# Altium footprint library 610 0xx 133 21.PcbLib: 12 footprints
Each footprint in its own frame and in the unit in brackets; x right, y up, seen from the top. Pads: shape width x height; smd on the part's side, far side on the other; paste and mask are expansions set on the pad; w line width, h text height; cw(c..) or ccw(c..) is an arc to the next point about the centre after c.
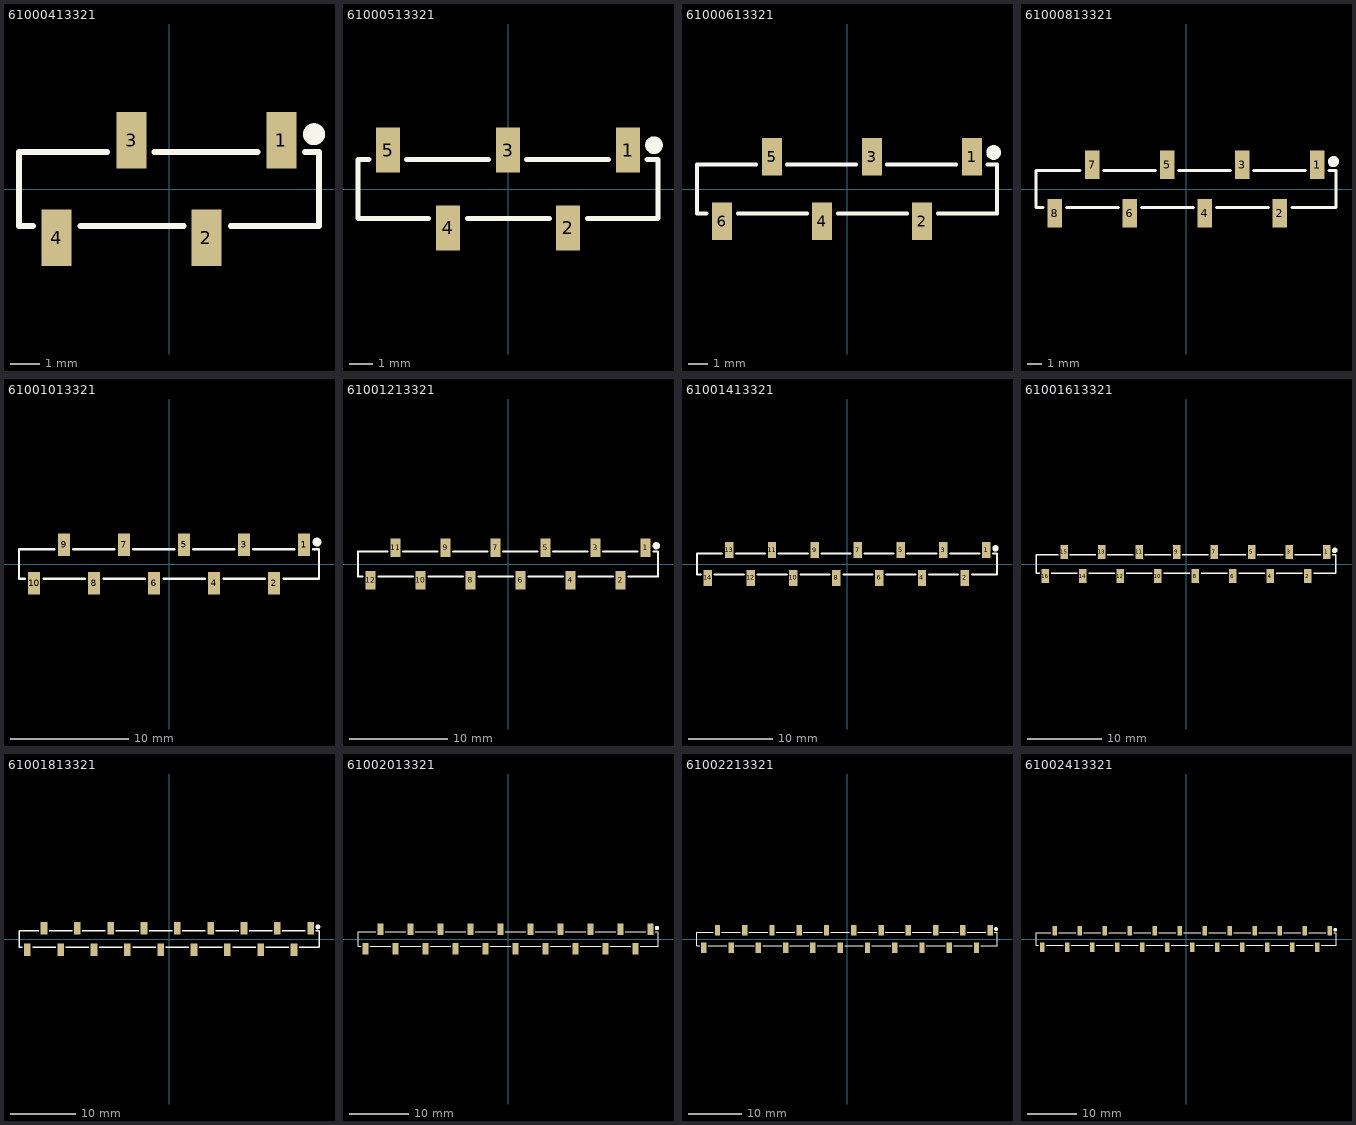
[diagram p0: the footprints below, top view; thin cyan lines are the x and y axes]

## 61000413321 [mm] "4 pins, 1 row, straight, Type 2, gold plating"
height 7.5
pads (4):
  rect 1x1.91 smd: 1(3.81,1.645) 2(1.27,-1.645) 3(-1.27,1.645) 4(-3.81,-1.645)
Top Overlay:
  circle w0.5: c4.91,1.855 r0.122
  lines w0.2: -4.6,-1.25 -5.08,-1.25 -5.08,1.25 -2.09,1.25 ; -3,-1.25 0.5,-1.25 ; -0.5,1.25 3,1.25 ; 2.09,-1.25 5.08,-1.25 5.08,1.25 4.6,1.25
3D body "61000413321.stp": height 7.55, standoff 0.05, extent -5.33,-2.025 5.33,2.025

## 61000513321 [mm] "5 pins, 1 row, straight, Type 2, gold plating"
height 7.5
pads (5):
  rect 1x1.91 smd: 1(5.08,1.645) 2(2.54,-1.645) 3(0,1.645) 4(-2.54,-1.645) 5(-5.08,1.645)
Top Overlay:
  circle w0.5: c6.18,1.855 r0.122
  lines w0.2: -5.87,1.25 -6.35,1.25 -6.35,-1.25 -3.36,-1.25 ; -4.31,1.25 -0.81,1.25 ; -1.73,-1.25 1.77,-1.25 ; 0.77,1.25 4.27,1.25 ; 3.36,-1.25 6.35,-1.25 6.35,1.25 5.87,1.25
3D body "61000513321.stp": height 7.55, standoff 0.05, extent -6.6,-2.025 6.6,2.025

## 61000613321 [mm] "6 pins, 1 row, straight, Type 2, gold plating"
height 7.5
pads (6):
  rect 1x1.91 smd: 1(6.35,1.645) 2(3.81,-1.645) 3(1.27,1.645) 4(-1.27,-1.645) 5(-3.81,1.645) 6(-6.35,-1.645)
Top Overlay:
  circle w0.5: c7.45,1.855 r0.122
  lines w0.2: -7.14,-1.25 -7.62,-1.25 -7.62,1.25 -4.63,1.25 ; -5.54,-1.25 -2.04,-1.25 ; -3.04,1.25 0.46,1.25 ; -0.46,-1.25 3.04,-1.25 ; 2.04,1.25 5.54,1.25 ; 4.63,-1.25 7.62,-1.25 7.62,1.25 7.14,1.25
3D body "61000613321.stp": height 7.55, standoff 0.05, extent -7.87,-2.025 7.87,2.025

## 61000813321 [mm] "8 pins, 1 row, straight, Type 2, gold plating"
height 7.5
pads (8):
  rect 1x1.91 smd: 1(8.89,1.645) 2(6.35,-1.645) 3(3.81,1.645) 4(1.27,-1.645) 5(-1.27,1.645) 6(-3.81,-1.645) 7(-6.35,1.645) 8(-8.89,-1.645)
Top Overlay:
  circle w0.5: c9.99,1.855 r0.122
  lines w0.2: -9.68,-1.25 -10.16,-1.25 -10.16,1.25 -7.17,1.25 ; -8.08,-1.25 -4.58,-1.25 ; -5.58,1.25 -2.08,1.25 ; -3,-1.25 0.5,-1.25 ; -0.5,1.25 3,1.25 ; 2.08,-1.25 5.58,-1.25 ; 4.58,1.25 8.08,1.25 ; 7.17,-1.25 10.16,-1.25 10.16,1.25 9.68,1.25
3D body "61000813321.stp": height 7.55, standoff 0.05, extent -10.41,-2.025 10.41,2.025

## 61001013321 [mm] "10 pins, 1 row, straight, Type 2, gold plating"
height 7.5
pads (10):
  rect 1x1.91 smd: 1(11.43,1.645) 2(8.89,-1.645) 3(6.35,1.645) 4(3.81,-1.645) 5(1.27,1.645) 6(-1.27,-1.645) 7(-3.81,1.645) 8(-6.35,-1.645) 9(-8.89,1.645) 10(-11.43,-1.645)
Top Overlay:
  circle w0.5: c12.53,1.855 r0.122
  lines w0.2: -12.22,-1.25 -12.7,-1.25 -12.7,1.25 -9.71,1.25 ; -10.62,-1.25 -7.12,-1.25 ; -8.12,1.25 -4.62,1.25 ; -5.54,-1.25 -2.04,-1.25 ; -3.04,1.25 0.46,1.25 ; -0.46,-1.25 3.04,-1.25 ; 2.04,1.25 5.54,1.25 ; 4.62,-1.25 8.12,-1.25 ; 7.12,1.25 10.62,1.25 ; 9.71,-1.25 12.7,-1.25 12.7,1.25 12.22,1.25
3D body "61001013321.stp": height 7.55, standoff 0.05, extent -12.95,-2.025 12.95,2.025

## 61001213321 [mm] "12 pins, 1 row, straight, Type 2, gold plating"
height 7.5
pads (12):
  rect 1x1.91 smd: 1(13.97,1.645) 2(11.43,-1.645) 3(8.89,1.645) 4(6.35,-1.645) 5(3.81,1.645) 6(1.27,-1.645) 7(-1.27,1.645) 8(-3.81,-1.645) 9(-6.35,1.645) 10(-8.89,-1.645) 11(-11.43,1.645) 12(-13.97,-1.645)
Top Overlay:
  circle w0.5: c15.07,1.855 r0.122
  lines w0.2: -14.76,-1.25 -15.24,-1.25 -15.24,1.25 -12.25,1.25 ; -13.16,-1.25 -9.66,-1.25 ; -10.66,1.25 -7.16,1.25 ; -8.08,-1.25 -4.58,-1.25 ; -5.58,1.25 -2.08,1.25 ; -3,-1.25 0.5,-1.25 ; -0.5,1.25 3,1.25 ; 2.08,-1.25 5.58,-1.25 ; 4.58,1.25 8.08,1.25 ; 7.16,-1.25 10.66,-1.25 ; 9.66,1.25 13.16,1.25 ; 12.25,-1.25 15.24,-1.25 15.24,1.25 14.76,1.25
3D body "61001213321.stp": height 7.55, standoff 0.05, extent -15.49,-2.025 15.49,2.025

## 61001413321 [mm] "14 pins, 1 row, straight, Type 2, gold plating"
height 7.5
pads (14):
  rect 1x1.91 smd: 1(16.51,1.645) 2(13.97,-1.645) 3(11.43,1.645) 4(8.89,-1.645) 5(6.35,1.645) 6(3.81,-1.645) 7(1.27,1.645) 8(-1.27,-1.645) 9(-3.81,1.645) 10(-6.35,-1.645) 11(-8.89,1.645) 12(-11.43,-1.645) 13(-13.97,1.645) 14(-16.51,-1.645)
Top Overlay:
  circle w0.5: c17.61,1.855 r0.122
  lines w0.2: -17.3,-1.25 -17.78,-1.25 -17.78,1.25 -14.79,1.25 ; -15.7,-1.25 -12.2,-1.25 ; -13.2,1.25 -9.7,1.25 ; -10.62,-1.25 -7.12,-1.25 ; -8.12,1.25 -4.62,1.25 ; -5.54,-1.25 -2.04,-1.25 ; -3.04,1.25 0.46,1.25 ; -0.46,-1.25 3.04,-1.25 ; 2.04,1.25 5.54,1.25 ; 4.62,-1.25 8.12,-1.25 ; 7.12,1.25 10.62,1.25 ; 9.7,-1.25 13.2,-1.25 ; 12.2,1.25 15.7,1.25 ; 14.79,-1.25 17.78,-1.25 17.78,1.25 17.3,1.25
3D body "61001413321.stp": height 7.55, standoff 0.05, extent -18.03,-2.025 18.03,2.025

## 61001613321 [mm] "16 pins, 1 row, straight, Type 2, gold plating"
height 7.5
pads (16):
  rect 1x1.91 smd: 1(19.05,1.645) 2(16.51,-1.645) 3(13.97,1.645) 4(11.43,-1.645) 5(8.89,1.645) 6(6.35,-1.645) 7(3.81,1.645) 8(1.27,-1.645) 9(-1.27,1.645) 10(-3.81,-1.645) 11(-6.35,1.645) 12(-8.89,-1.645) 13(-11.43,1.645) 14(-13.97,-1.645) 15(-16.51,1.645) 16(-19.05,-1.645)
Top Overlay:
  circle w0.5: c20.15,1.855 r0.122
  lines w0.2: -19.84,-1.25 -20.32,-1.25 -20.32,1.25 -17.33,1.25 ; -18.24,-1.25 -14.74,-1.25 ; -15.74,1.25 -12.24,1.25 ; -13.16,-1.25 -9.66,-1.25 ; -10.66,1.25 -7.16,1.25 ; -8.08,-1.25 -4.58,-1.25 ; -5.58,1.25 -2.08,1.25 ; -3,-1.25 0.5,-1.25 ; -0.5,1.25 3,1.25 ; 2.08,-1.25 5.58,-1.25 ; 4.58,1.25 8.08,1.25 ; 7.16,-1.25 10.66,-1.25 ; 9.66,1.25 13.16,1.25 ; 12.24,-1.25 15.74,-1.25 ; 14.74,1.25 18.24,1.25 ; 17.33,-1.25 20.32,-1.25 20.32,1.25 19.84,1.25
3D body "61001613321.stp": height 7.55, standoff 0.05, extent -20.57,-2.025 20.57,2.025

## 61001813321 [mm] "18 pins, 1 row, straight, Type 2, gold plating"
height 7.5
pads (18):
  rect 1x1.91 smd: 1(21.59,1.645) 2(19.05,-1.645) 3(16.51,1.645) 4(13.97,-1.645) 5(11.43,1.645) 6(8.89,-1.645) 7(6.35,1.645) 8(3.81,-1.645) 9(1.27,1.645) 10(-1.27,-1.645) 11(-3.81,1.645) 12(-6.35,-1.645) 13(-8.89,1.645) 14(-11.43,-1.645) 15(-13.97,1.645) 16(-16.51,-1.645) 17(-19.05,1.645) 18(-21.59,-1.645)
Top Overlay:
  circle w0.5: c22.69,1.855 r0.122
  lines w0.2: -22.38,-1.25 -22.86,-1.25 -22.86,1.25 -19.87,1.25 ; -20.78,-1.25 -17.28,-1.25 ; -18.28,1.25 -14.78,1.25 ; -15.7,-1.25 -12.2,-1.25 ; -13.2,1.25 -9.7,1.25 ; -10.62,-1.25 -7.12,-1.25 ; -8.12,1.25 -4.62,1.25 ; -5.54,-1.25 -2.04,-1.25 ; -3.04,1.25 0.46,1.25 ; -0.46,-1.25 3.04,-1.25 ; 2.04,1.25 5.54,1.25 ; 4.62,-1.25 8.12,-1.25 ; 7.12,1.25 10.62,1.25 ; 9.7,-1.25 13.2,-1.25 ; 12.2,1.25 15.7,1.25 ; 14.78,-1.25 18.28,-1.25 ; 17.28,1.25 20.78,1.25 ; 19.87,-1.25 22.86,-1.25 22.86,1.25 22.38,1.25
3D body "61001813321.stp": height 7.55, standoff 0.05, extent -23.11,-2.025 23.11,2.025

## 61002013321 [mm] "20 pins, 1 row, straight, Type 2, gold plating"
height 7.5
pads (20):
  rect 1x1.91 smd: 1(24.13,1.645) 2(21.59,-1.645) 3(19.05,1.645) 4(16.51,-1.645) 5(13.97,1.645) 6(11.43,-1.645) 7(8.89,1.645) 8(6.35,-1.645) 9(3.81,1.645) 10(1.27,-1.645) 11(-1.27,1.645) 12(-3.81,-1.645) 13(-6.35,1.645) 14(-8.89,-1.645) 15(-11.43,1.645) 16(-13.97,-1.645) 17(-16.51,1.645) 18(-19.05,-1.645) 19(-21.59,1.645) 20(-24.13,-1.645)
Top Overlay:
  circle w0.5: c25.23,1.855 r0.122
  lines w0.2: -24.92,-1.25 -25.4,-1.25 -25.4,1.25 -22.41,1.25 ; -23.32,-1.25 -19.82,-1.25 ; -20.82,1.25 -17.32,1.25 ; -18.24,-1.25 -14.74,-1.25 ; -15.74,1.25 -12.24,1.25 ; -13.16,-1.25 -9.66,-1.25 ; -10.66,1.25 -7.16,1.25 ; -8.08,-1.25 -4.58,-1.25 ; -5.58,1.25 -2.08,1.25 ; -3,-1.25 0.5,-1.25 ; -0.5,1.25 3,1.25 ; 2.08,-1.25 5.58,-1.25 ; 4.58,1.25 8.08,1.25 ; 7.16,-1.25 10.66,-1.25 ; 9.66,1.25 13.16,1.25 ; 12.24,-1.25 15.74,-1.25 ; 14.74,1.25 18.24,1.25 ; 17.32,-1.25 20.82,-1.25 ; 19.82,1.25 23.32,1.25 ; 22.41,-1.25 25.4,-1.25 25.4,1.25 24.92,1.25
3D body "61002013321.stp": height 7.55, standoff 0.05, extent -25.65,-2.025 25.65,2.025

## 61002213321 [mm] "22 pins, 1 row, straight, Type 2, gold plating"
height 7.5
pads (22):
  rect 1x1.91 smd: 1(26.67,1.645) 2(24.13,-1.645) 3(21.59,1.645) 4(19.05,-1.645) 5(16.51,1.645) 6(13.97,-1.645) 7(11.43,1.645) 8(8.89,-1.645) 9(6.35,1.645) 10(3.81,-1.645) 11(1.27,1.645) 12(-1.27,-1.645) 13(-3.81,1.645) 14(-6.35,-1.645) 15(-8.89,1.645) 16(-11.43,-1.645) 17(-13.97,1.645) 18(-16.51,-1.645) 19(-19.05,1.645) 20(-21.59,-1.645) 21(-24.13,1.645) 22(-26.67,-1.645)
Top Overlay:
  circle w0.5: c27.77,1.855 r0.122
  lines w0.2: -27.46,-1.25 -27.94,-1.25 -27.94,1.25 -24.95,1.25 ; -25.86,-1.25 -22.36,-1.25 ; -23.36,1.25 -19.86,1.25 ; -20.78,-1.25 -17.28,-1.25 ; -18.28,1.25 -14.78,1.25 ; -15.7,-1.25 -12.2,-1.25 ; -13.2,1.25 -9.7,1.25 ; -10.62,-1.25 -7.12,-1.25 ; -8.12,1.25 -4.62,1.25 ; -5.54,-1.25 -2.04,-1.25 ; -3.04,1.25 0.46,1.25 ; -0.46,-1.25 3.04,-1.25 ; 2.04,1.25 5.54,1.25 ; 4.62,-1.25 8.12,-1.25 ; 7.12,1.25 10.62,1.25 ; 9.7,-1.25 13.2,-1.25 ; 12.2,1.25 15.7,1.25 ; 14.78,-1.25 18.28,-1.25 ; 17.28,1.25 20.78,1.25 ; 19.86,-1.25 23.36,-1.25 ; 22.36,1.25 25.86,1.25 ; 24.95,-1.25 27.94,-1.25 27.94,1.25 27.46,1.25
3D body "61002213321.stp": height 7.55, standoff 0.05, extent -28.19,-2.025 28.19,2.025

## 61002413321 [mm] "24 pins, 1 row, straight, Type 2, gold plating"
height 7.5
pads (24):
  rect 1x1.91 smd: 1(29.21,1.645) 2(26.67,-1.645) 3(24.13,1.645) 4(21.59,-1.645) 5(19.05,1.645) 6(16.51,-1.645) 7(13.97,1.645) 8(11.43,-1.645) 9(8.89,1.645) 10(6.35,-1.645) 11(3.81,1.645) 12(1.27,-1.645) 13(-1.27,1.645) 14(-3.81,-1.645) 15(-6.35,1.645) 16(-8.89,-1.645) 17(-11.43,1.645) 18(-13.97,-1.645) 19(-16.51,1.645) 20(-19.05,-1.645) 21(-21.59,1.645) 22(-24.13,-1.645) 23(-26.67,1.645) 24(-29.21,-1.645)
Top Overlay:
  circle w0.5: c30.31,1.855 r0.122
  lines w0.2: -30,-1.25 -30.48,-1.25 -30.48,1.25 -27.49,1.25 ; -28.4,-1.25 -24.9,-1.25 ; -25.9,1.25 -22.4,1.25 ; -23.32,-1.25 -19.82,-1.25 ; -20.82,1.25 -17.32,1.25 ; -18.24,-1.25 -14.74,-1.25 ; -15.74,1.25 -12.24,1.25 ; -13.16,-1.25 -9.66,-1.25 ; -10.66,1.25 -7.16,1.25 ; -8.08,-1.25 -4.58,-1.25 ; -5.58,1.25 -2.08,1.25 ; -3,-1.25 0.5,-1.25 ; -0.5,1.25 3,1.25 ; 2.08,-1.25 5.58,-1.25 ; 4.58,1.25 8.08,1.25 ; 7.16,-1.25 10.66,-1.25 ; 9.66,1.25 13.16,1.25 ; 12.24,-1.25 15.74,-1.25 ; 14.74,1.25 18.24,1.25 ; 17.32,-1.25 20.82,-1.25 ; 19.82,1.25 23.32,1.25 ; 22.4,-1.25 25.9,-1.25 ; 24.9,1.25 28.4,1.25 ; 27.49,-1.25 30.48,-1.25 30.48,1.25 30,1.25
3D body "61002413321.stp": height 7.55, standoff 0.05, extent -30.73,-2.025 30.73,2.025